# Altium schematic symbol library 3557-15.SchLib: 1 symbol
Pins are listed as number, name and electrical type; pins without a type are passive.

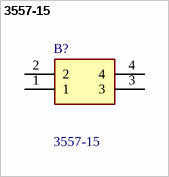
[diagram p0: symbol 3557-15]

## 3557-15
designator B?
Fuse Holder T/H 2 IN 1 AUTO BLDE HOLDER, BLUE 15A; Manufacturer_Name: Keystone Electronics; Allied_Number: 70914078; Geometry.Height: 7.5mm; RS Part Number: *; RS Price/Stock: *; Manufacturer_Part_Number: 3557-15; Datasheet Link: https://www.keyelco.com/product-pdf.cfm?p=14225
footprint 355715
pins: 1, 2, 3, 4